# EAGLE library part DF3-6 (library hirose)
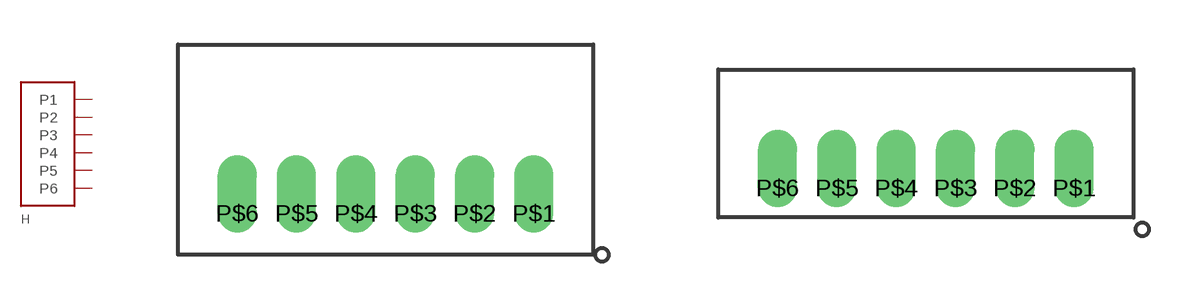
[diagram p0: symbol with the pads of DF3-6-RA; footprints DF3-6-RA, DF3-6]

Designator prefix H

## DF3-6RA  [DF3-6-RA]
P$1  P1
P$2  P2
P$3  P3
P$4  P4
P$5  P5
P$6  P6

## DF3-6  [DF3-6]
Pads as for DF3-6-RA

## Footprint DF3-6-RA (pad centres in mm)
drill 0.8 offset: P$1 0,0; P$2 -2,0; P$3 -4,0; P$4 -6,0; P$5 -8,0; P$6 -10,0

## Footprint DF3-6 (pad centres in mm)
drill 0.8 offset: P$1 0,0; P$2 -2,0; P$3 -4,0; P$4 -6,0; P$5 -8,0; P$6 -10,0